# Altium footprint library Connector.PcbLib: 32 footprints (part 1 of 2)
Each footprint in its own frame and in the unit in brackets; x right, y up, seen from the top. Pads: shape width x height; smd on the part's side, far side on the other; paste and mask are expansions set on the pad; w line width, h text height; cw(c..) or ccw(c..) is an arc to the next point about the centre after c.
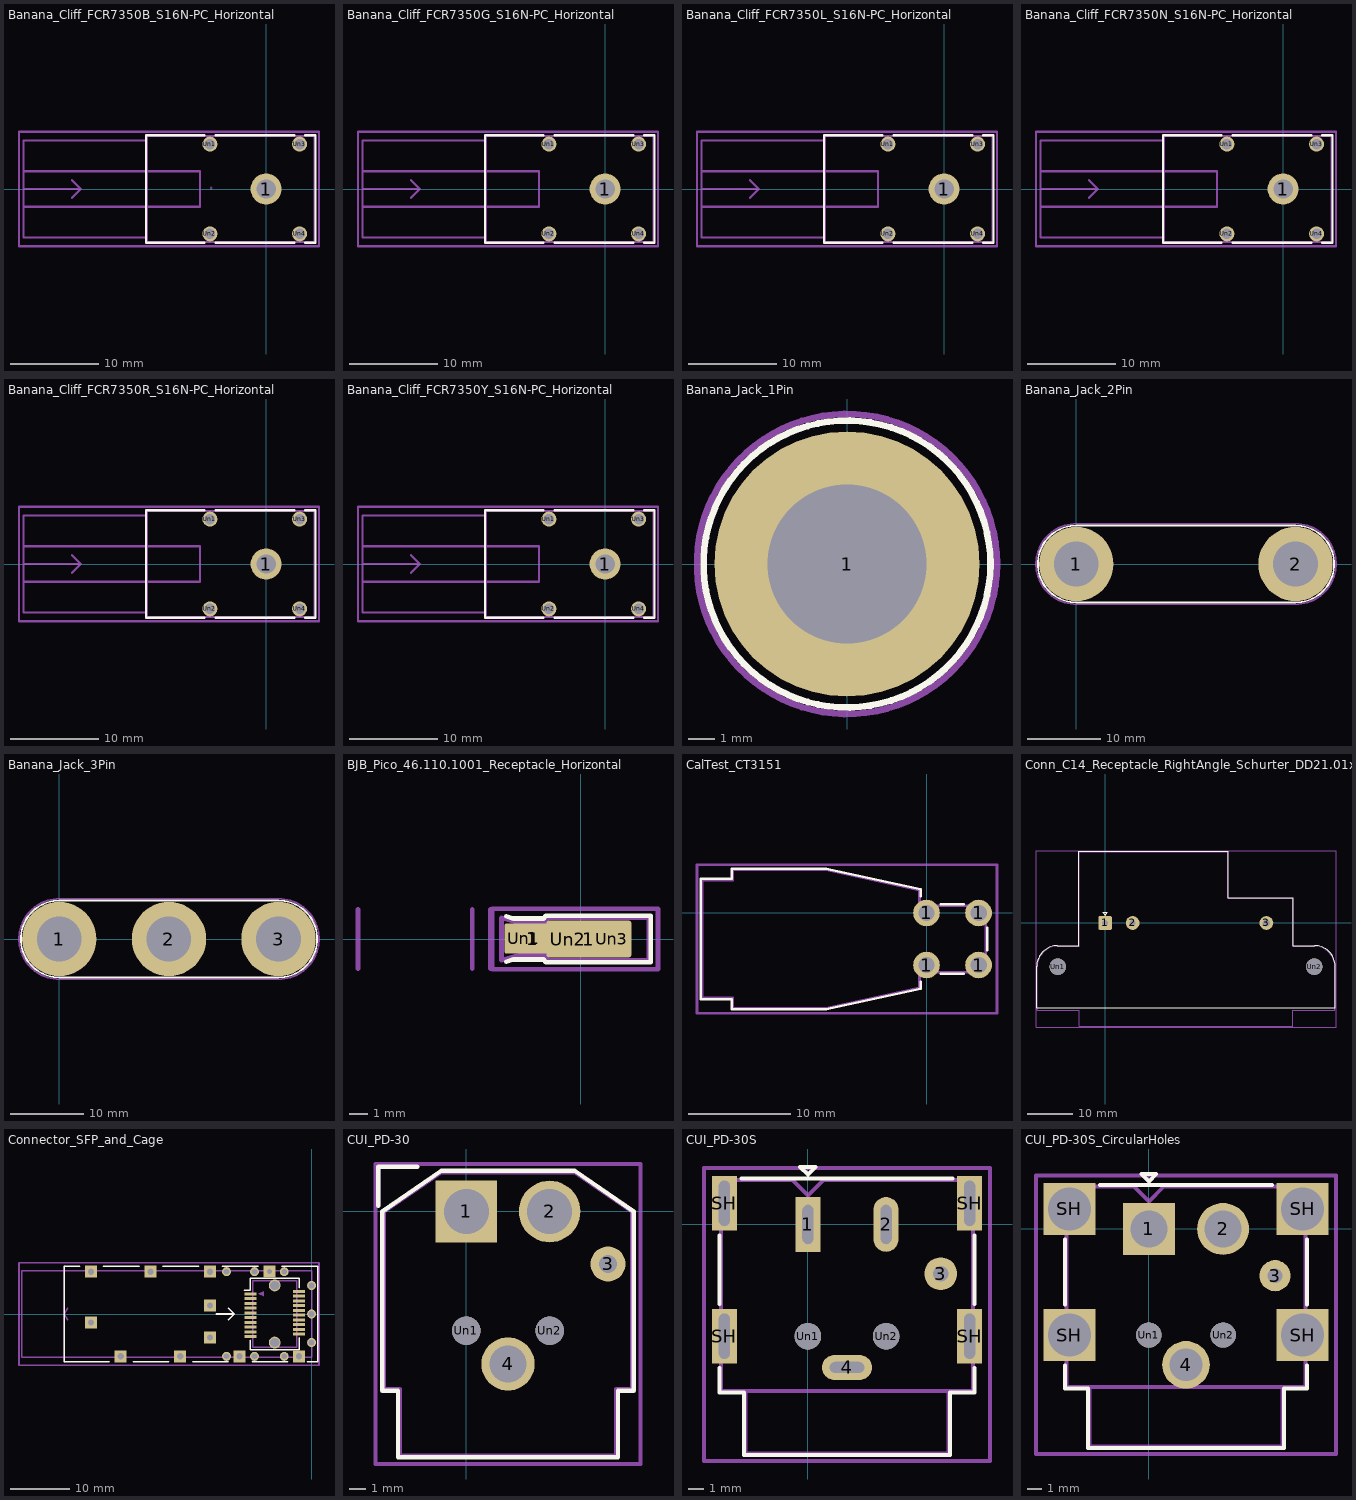
[diagram p0: the footprints below, top view; thin cyan lines are the x and y axes]

## Banana_Cliff_FCR7350B_S16N-PC_Horizontal [mm]
pads (5):
  round 3.5 hole 2.2: 1(0,0)
  round 1.7 hole 1.2: Un1(-6.36,5.08) Un2(-6.36,-5.08) Un3(3.8,5.08) Un4(3.8,-5.08)
F.SilkS:
  lines w0.254: -7,-6.1 -13.6,-6.1 -13.6,6.1 -7,6.1 ; -5.7,-6.1 3.2,-6.1 ; -5.7,6.1 3.2,6.1 ; 4.4,-6.1 5.6,-6.1 5.6,6.1 4.4,6.1
Top Component Center:
  lines w0.127: -6.35,0.127 -6.096,0.127 ; -6.223,0 -6.223,0.254
Top Assembly:
  lines w0.254: -27.5,0 -21,0 ; -22,-1 -21,0 ; -22,1 -21,0 ; -27.5,-5.5 -27.5,5.5 -13.5,5.5 -13.5,-5.5 -27.5,-5.5 ; -27.5,-2 -7.5,-2 -7.5,2 -27.5,2 -27.5,-2 ; -13.5,-6 5.5,-6 5.5,6 -13.5,6 -13.5,-6
  text "'.Designator'" at -4.047,-0.84 h1
Top Courtyard:
  lines w0.254: -28,-6.5 6,-6.5 6,6.5 -28,6.5 -28,-6.5
Top Designator:
  text ".Designator" at -18.618,-0.508 h1.52

## Banana_Cliff_FCR7350G_S16N-PC_Horizontal [mm]
pads (5):
  round 3.5 hole 2.2: 1(0,0)
  round 1.7 hole 1.2: Un1(-6.36,5.08) Un2(-6.36,-5.08) Un3(3.8,5.08) Un4(3.8,-5.08)
F.SilkS:
  lines w0.254: -7,-6.1 -13.6,-6.1 -13.6,6.1 -7,6.1 ; -5.7,-6.1 3.2,-6.1 ; -5.7,6.1 3.2,6.1 ; 4.4,-6.1 5.6,-6.1 5.6,6.1 4.4,6.1
Top Assembly:
  lines w0.254: -27.5,0 -21,0 ; -22,-1 -21,0 ; -22,1 -21,0 ; -27.5,-5.5 -27.5,5.5 -13.5,5.5 -13.5,-5.5 -27.5,-5.5 ; -27.5,-2 -7.5,-2 -7.5,2 -27.5,2 -27.5,-2 ; -13.5,-6 5.5,-6 5.5,6 -13.5,6 -13.5,-6
  text "'.Designator'" at -4.047,-0.84 h1
Top Courtyard:
  lines w0.254: -28,-6.5 6,-6.5 6,6.5 -28,6.5 -28,-6.5
Top Designator:
  text ".Designator" at -18.618,-0.508 h1.52

## Banana_Cliff_FCR7350L_S16N-PC_Horizontal [mm]
pads (5):
  round 3.5 hole 2.2: 1(0,0)
  round 1.7 hole 1.2: Un1(-6.36,5.08) Un2(-6.36,-5.08) Un3(3.8,5.08) Un4(3.8,-5.08)
F.SilkS:
  lines w0.254: -7,-6.1 -13.6,-6.1 -13.6,6.1 -7,6.1 ; -5.7,-6.1 3.2,-6.1 ; -5.7,6.1 3.2,6.1 ; 4.4,-6.1 5.6,-6.1 5.6,6.1 4.4,6.1
Top Assembly:
  lines w0.254: -27.5,0 -21,0 ; -22,-1 -21,0 ; -22,1 -21,0 ; -27.5,-5.5 -27.5,5.5 -13.5,5.5 -13.5,-5.5 -27.5,-5.5 ; -27.5,-2 -7.5,-2 -7.5,2 -27.5,2 -27.5,-2 ; -13.5,-6 5.5,-6 5.5,6 -13.5,6 -13.5,-6
  text "'.Designator'" at -4.047,-0.84 h1
Top Courtyard:
  lines w0.254: -28,-6.5 6,-6.5 6,6.5 -28,6.5 -28,-6.5
Top Designator:
  text ".Designator" at -18.618,-0.508 h1.52

## Banana_Cliff_FCR7350N_S16N-PC_Horizontal [mm]
pads (5):
  round 3.5 hole 2.2: 1(0,0)
  round 1.7 hole 1.2: Un1(-6.36,5.08) Un2(-6.36,-5.08) Un3(3.8,5.08) Un4(3.8,-5.08)
F.SilkS:
  lines w0.254: -7,-6.1 -13.6,-6.1 -13.6,6.1 -7,6.1 ; -5.7,-6.1 3.2,-6.1 ; -5.7,6.1 3.2,6.1 ; 4.4,-6.1 5.6,-6.1 5.6,6.1 4.4,6.1
Top Assembly:
  lines w0.254: -27.5,0 -21,0 ; -22,-1 -21,0 ; -22,1 -21,0 ; -27.5,-5.5 -27.5,5.5 -13.5,5.5 -13.5,-5.5 -27.5,-5.5 ; -27.5,-2 -7.5,-2 -7.5,2 -27.5,2 -27.5,-2 ; -13.5,-6 5.5,-6 5.5,6 -13.5,6 -13.5,-6
  text "'.Designator'" at -4.047,-0.84 h1
Top Courtyard:
  lines w0.254: -28,-6.5 6,-6.5 6,6.5 -28,6.5 -28,-6.5
Top Designator:
  text ".Designator" at -18.618,-0.508 h1.52

## Banana_Cliff_FCR7350R_S16N-PC_Horizontal [mm]
pads (5):
  round 3.5 hole 2.2: 1(0,0)
  round 1.7 hole 1.2: Un1(-6.36,5.08) Un2(-6.36,-5.08) Un3(3.8,5.08) Un4(3.8,-5.08)
F.SilkS:
  lines w0.254: -7,-6.1 -13.6,-6.1 -13.6,6.1 -7,6.1 ; -5.7,-6.1 3.2,-6.1 ; -5.7,6.1 3.2,6.1 ; 4.4,-6.1 5.6,-6.1 5.6,6.1 4.4,6.1
Top Assembly:
  lines w0.254: -27.5,0 -21,0 ; -22,-1 -21,0 ; -22,1 -21,0 ; -27.5,-5.5 -27.5,5.5 -13.5,5.5 -13.5,-5.5 -27.5,-5.5 ; -27.5,-2 -7.5,-2 -7.5,2 -27.5,2 -27.5,-2 ; -13.5,-6 5.5,-6 5.5,6 -13.5,6 -13.5,-6
  text "'.Designator'" at -4.047,-0.84 h1
Top Courtyard:
  lines w0.254: -28,-6.5 6,-6.5 6,6.5 -28,6.5 -28,-6.5
Top Designator:
  text ".Designator" at -18.618,-0.508 h1.52

## Banana_Cliff_FCR7350Y_S16N-PC_Horizontal [mm]
pads (5):
  round 3.5 hole 2.2: 1(0,0)
  round 1.7 hole 1.2: Un1(-6.36,5.08) Un2(-6.36,-5.08) Un3(3.8,5.08) Un4(3.8,-5.08)
F.SilkS:
  lines w0.254: -7,-6.1 -13.6,-6.1 -13.6,6.1 -7,6.1 ; -5.7,-6.1 3.2,-6.1 ; -5.7,6.1 3.2,6.1 ; 4.4,-6.1 5.6,-6.1 5.6,6.1 4.4,6.1
Top Assembly:
  lines w0.254: -27.5,0 -21,0 ; -22,-1 -21,0 ; -22,1 -21,0 ; -27.5,-5.5 -27.5,5.5 -13.5,5.5 -13.5,-5.5 -27.5,-5.5 ; -27.5,-2 -7.5,-2 -7.5,2 -27.5,2 -27.5,-2 ; -13.5,-6 5.5,-6 5.5,6 -13.5,6 -13.5,-6
  text "'.Designator'" at -4.047,-0.84 h1
Top Courtyard:
  lines w0.254: -28,-6.5 6,-6.5 6,6.5 -28,6.5 -28,-6.5
Top Designator:
  text ".Designator" at -18.618,-0.508 h1.52

## Banana_Jack_1Pin [mm]
pads (1):
  round 10.16 hole 6.1: 1(0,0)
F.SilkS:
  circle w0.254: c0,0 r5.5
Top Assembly:
  circle w0.254: c0,0 r4.85
  circle w0.254: c0,0 r2
  text "'.Designator'" at -3.237,-0.672 h0.8
Top Courtyard:
  circle w0.254: c0,0 r5.75
Top Designator:
  text ".Designator" at -7.618,-0.508 h1.52

## Banana_Jack_2Pin [mm]
pads (2):
  round 10.16 hole 6.1: 1(0,0) 2(29.97,0)
F.SilkS:
  lines w0.254: 0,-5.25 cw(c0,0) 0,5.25 30,5.25 cw(c30,0) 30,-5.25 0,-5.25
Top Assembly:
  circle w0.254: c30,0 r4.75
  circle w0.254: c30,0 r2
  circle w0.254: c0,0 r4.75
  circle w0.254: c0,0 r2
  text "'.Designator'" at 10.938,-0.84 h1
Top Courtyard:
  lines w0.254: 0,-5.5 cw(c0,0) 0,5.5 30,5.5 cw(c30,0) 30,-5.5 0,-5.5
Top Designator:
  text ".Designator" at 7.382,-0.508 h1.52

## Banana_Jack_3Pin [mm]
pads (3):
  round 10.16 hole 6.1: 1(0,0) 2(14.99,0) 3(29.97,0)
F.SilkS:
  lines w0.254: 0,-5.25 cw(c0,0) 0,5.25 30,5.25 cw(c30,0) 30,-5.25 0,-5.25
Top Assembly:
  circle w0.254: c30,0 r2
  circle w0.254: c30,0 r4.75
  circle w0.254: c15,0 r4.75
  circle w0.254: c15,0 r2
  circle w0.254: c0,0 r4.75
  circle w0.254: c0,0 r2
  text "'.Designator'" at 11.753,-0.672 h0.8
Top Courtyard:
  lines w0.254: 0,-5.5 cw(c0,0) 0,5.5 30,5.5 cw(c30,0) 30,-5.5 0,-5.5
Top Designator:
  text ".Designator" at 7.382,-0.508 h1.52

## BJB_Pico_46.110.1001_Receptacle_Horizontal [mm]
pads (5):
  rrect15% 3.1x1.65 smd: 1(-2.6,0.025)
  rrect12% 4.6x2 smd: 1(0.45,0)
  rrect15% 2.1x1.65 on Top Paste: Un1(-3.1,0.025)
  rrect12% 2.3x2 on Top Paste: Un2(-0.7,0)
  rrect12% 2.1x2 on Top Paste: Un3(1.7,0)
F.SilkS:
  lines w0.254: -4.05,-1.24 -3.65,-1.11 -2,-1.11 -1.9,-1.26 3.81,-1.26 3.81,1.26 -1.9,1.26 -2,1.11 -3.65,1.11 -4.05,1.24
Top Assembly:
  lines w0.254: -4.3,-1.15 -3.3,-0.85 -1.95,-0.85 -1.8,-1.15 3.7,-1.15 3.7,1.15 -1.8,1.15 -1.95,0.85 -3.3,0.85 -4.3,1.15 -4.3,-1.15
  text "'.Designator'" at -4.047,-0.84 h1
Top Courtyard:
  lines w0.254: -4.8,-1.65 4.2,-1.65 4.2,1.65 -4.8,1.65 -4.8,-1.65
Top Designator:
  text ".Designator" at -11.821,-0.508 h1.52
Dwgs.User:
  lines w0.254: -12.1,-1.6 -12.1,1.6 ; -5.9,-1.6 -5.9,1.6 ; -4.9,-1.6 -4.9,1.6
  text "PCB Edges" at -5.073,-1.526 h0.4
  text "17.6mm conn" at -6.105,-1.428 h0.3
  text "15.6mm conn" at -4.305,-1.428 h0.3
  text "MiniFlex 30" at -11.431,-1.534 h0.4
  text "PCB Edge" at -12.273,-1.379 h0.4

## CalTest_CT3151 [mm]
pads (4):
  round 2.6 hole 1.6: 1(0,-5.08) 1(0,0) 1(5.08,-5.08) 1(5.08,0)
F.SilkS:
  lines w0.254: -0.561,-6.703 -0.561,-7.41 -9.79,-9.41 -19.02,-9.41 -19.02,-8.41 -22.02,-8.41 -22.02,3.33 -19.02,3.33 -19.02,4.33 -9.79,4.33 -0.561,2.33 -0.561,1.623 ; 1.417,-5.92 3.653,-5.92 ; 1.417,0.84 3.652,0.84 ; 5.92,-3.656 5.92,-1.425
Top Assembly:
  lines w0.254: -21.9,-8.29 -18.9,-8.29 -18.9,-9.29 -9.79,-9.29 -0.68,-7.29 -0.68,-5.8 5.8,-5.8 5.8,0.72 -0.68,0.72 -0.68,2.21 -9.79,4.21 -18.9,4.21 -18.9,3.21 -21.9,3.21 -21.9,-8.29
  text "'.Designator'" at -1.507,-3.38 h1
Top Courtyard:
  lines w0.254: -22.4,-9.79 6.88,-9.79 6.88,4.71 -22.4,4.71 -22.4,-9.79
Top Designator:
  text ".Designator" at -15.378,-3.048 h1.52

## Conn_C14_Receptacle_RightAngle_Schurter_DD21.01xx [mm]
pads (5):
  rrect22% 3x3 hole 1.3: 1(0,0)
  round 3 hole 1.3: 2(6,0)
  round 3 hole 1.6: 3(35.2,0)
  round 3.6 hole 3.6: Un1(-10.35,-9.55) Un2(45.65,-9.55)
F.SilkS:
  lines w0.254: -5.54,15.66 -5.76,15.66 ; 26.86,15.44 26.86,15.66 ; 41.06,5.24 41.06,5.46 ; -5.76,15.66 26.86,15.66 ; -5.76,15.66 -5.76,-4.94 -10.46,-4.94 ccw(c-10.35,-9.55) -14.96,-9.44 -14.96,-18.55 50.26,-18.55 50.26,-9.66 ccw(c45.65,-9.55) 45.76,-4.94 41.06,-4.94 41.06,5.46 ; 26.86,15.66 26.86,5.46 41.06,5.46 ; -0.492,2.321 0,1.641 0.479,2.321 -0.492,2.321
Top Assembly:
  lines w0.254: -14.85,-19.05 -5.65,-19.05 -5.65,-22.55 40.95,-22.55 40.95,-19.05 50.15,-19.05 50.15,-9.55 ccw(c45.65,-9.55) 45.65,-5.05 40.95,-5.05 40.95,5.35 26.75,5.35 26.75,15.55 -5.65,15.55 -5.65,-5.05 -10.35,-5.05 ccw(c-10.35,-9.55) -14.85,-9.55 -14.85,-19.05
  text "'.Designator'" at 13.603,-10.28 h1
Top Courtyard:
  lines w0.254: -15.1,-22.8 50.4,-22.8 50.4,15.8 -15.1,15.8 -15.1,-22.8
Top Designator:
  text ".Designator" at 10.032,-4.008 h1.52

## Connector_SFP_and_Cage [mm]
pads (42):
  rect 2x0.5 smd: 1(-10.3,3.4) 2(-10.3,2.6) 3(-10.3,1.8) 4(-10.3,1) 5(-10.3,0.2) 6(-10.3,-0.6) 7(-10.3,-1.4) 8(-10.3,-2.2) 9(-10.3,-3) 10(-10.3,-3.8) 11(-2.1,-3.4) 12(-2.1,-2.6) 13(-2.1,-1.8) 14(-2.1,-1) 15(-2.1,-0.2) 16(-2.1,0.6) 17(-2.1,1.4) 18(-2.1,2.2) 19(-2.1,3) 20(-2.1,3.8)
  rect 2x2 hole 1.05: CAGE(-37.1,-1.45) CAGE(-37.1,7.125) CAGE(-32.1,-7.125) CAGE(-27.1,7.125) CAGE(-22.1,-7.125) CAGE(-17.1,-3.95) CAGE(-17.1,1.45) CAGE(-17.1,7.125) CAGE(-12.1,-7.125) CAGE(-2.1,-7.125)
  round 1.5 hole 0.95: CAGE(-14.3,-7.125) CAGE(-14.3,7.125) CAGE(-9.6,-7.125) CAGE(-9.6,7.125) CAGE(-4.6,-7.125) CAGE(-4.6,7.125) CAGE(0,-4.8) CAGE(0,0) CAGE(0,4.8)
  rect 2x2 hole 0.85: CAGE(-7.1,7.125)
  round 2 hole 1.55: Un1(-6.2,4.8) Un2(-6.2,-4.8)
F.SilkS:
  lines w0.254: -39,8 -41.6,8 -41.6,-8 -34,-8 ; -35,8 -29,8 ; -30,-8 -24,-8 ; -25,8 -19,8 ; -20,-8 -14,-8 ; -16,0 -13,0 ; -15,8 -9,8 ; -14,-1 -13,0 ; -14,1 -13,0 ; -11.3,4 -10.3,4 -10.3,6 -2.1,6 -2.1,4.4 ; -10.3,-4.4 -10.3,-6 -2.1,-6 -2.1,-4 ; -10,-8 -4,-8 ; -5,8 1,8 1,-8 -0.7,-8
Top Assembly:
  region: -8,3 -9,3.4 -8,3.8
  lines w0.254: -48.7,-7.25 0,-7.25 0,7.25 -48.7,7.25 -48.7,-7.25 ; -9.9,-5.6 -2.5,-5.6 -2.5,5.6 -9.9,5.6 -9.9,-5.6
  text "'.Designator'" at -10.247,-0.84 h1
Top Courtyard:
  lines w0.254: -49.2,-8.63 1.25,-8.63 1.25,8.63 -49.2,8.63 -49.2,-8.63
Top Designator:
  text ".Designator" at -31.593,-0.508 h1.52
Dwgs.User:
  lines w0.254: -41.6,-8.125 -41.6,8.125 ; -41,-1 -41.6,0 -41,1
Cmts.User:
  text "(except chassis ground)" at -36.329,2.088 h1
  text "Component and trace keepout" at -38.631,3.883 h1
  text "PCB edge" at -42.183,-3.447 h1

## CUI_PD-30 [mm]
pads (6):
  rect 3.7x3.7 hole 2.7: 1(0,0)
  round 3.7 hole 2.7: 2(5,0)
  round 2.1 hole 1.1: 3(8.5,-3.15)
  round 3.2 hole 2.2: 4(2.5,-9.15)
  round 1.7 hole 1.7: Un1(0,-7.15) Un2(5,-7.15)
F.SilkS:
  lines w0.254: -5.29,0.35 -5.29,2.69 -2.95,2.69 ; -5.05,-10.75 -4.1,-10.75 -4.1,-14.75 9.1,-14.75 9.1,-10.75 10.05,-10.75 10.05,0 6.5,2.45 -1.5,2.45 -5.05,0 -5.05,-10.75
Top Assembly:
  lines w0.254: -5.29,0.35 -5.29,2.69 -2.95,2.69 ; -4.95,-10.65 -4,-10.65 -4,-14.65 9,-14.65 9,-10.65 9.95,-10.65 9.95,0 6.5,2.35 -1.5,2.35 -4.95,0 -4.95,-10.65
  text "'.Designator'" at -1.547,-6.99 h1
Top Courtyard:
  lines w0.254: -5.45,-15.15 10.45,-15.15 10.45,2.85 -5.45,2.85 -5.45,-15.15
Top Designator:
  text ".Designator" at -5.118,-6.658 h1.52

## CUI_PD-30S [mm]
pads (10):
  rect 1.6x3.5 hole 2.5 slot 0.7 at 0 deg: 1(0,0)
  rrect100% 1.6x3.5 hole 2.5 slot 0.7 at 0 deg: 2(5,0)
  round 2.1 hole 1: 3(8.5,-3.15)
  rrect100% 3.2x1.6 hole 0.7 slot 2.2 at 0 deg: 4(2.5,-9.15)
  rect 1.6x3.5 hole 2.9 slot 0.7 at 0 deg: SH(-5.35,-7.15) SH(-5.35,1.35) SH(10.35,-7.15) SH(10.35,1.35)
  round 1.7 hole 1.7: Un1(0,-7.15) Un2(5,-7.15)
F.SilkS:
  lines w0.254: -5.65,-9.2 -5.65,-10.75 -4.1,-10.75 -4.1,-14.75 9.1,-14.75 9.1,-10.75 10.65,-10.75 10.65,-9.2 ; -5.65,-5.1 -5.65,-0.7 ; -4.25,2.95 9.25,2.95 ; 10.65,-5.1 10.65,-0.7 ; -0.5,3.69 0,3.19 0.5,3.69 -0.5,3.69
Top Assembly:
  lines w0.254: -4,-10.65 -4,-14.65 9,-14.65 9,-10.65 ; -4,-10.65 9,-10.65 ; -4,-10.65 -5.55,-10.65 -5.55,2.85 -1,2.85 0,1.85 1,2.85 10.55,2.85 10.55,-10.65 9,-10.65
  text "'.Designator'" at -1.547,-6.74 h1
Top Courtyard:
  lines w0.254: -6.65,-15.15 11.65,-15.15 11.65,3.6 -6.65,3.6 -6.65,-15.15
Top Designator:
  text ".Designator" at -5.118,-6.238 h1.52

## CUI_PD-30S_CircularHoles [mm]
pads (10):
  rect 3.5x3.5 hole 2.5: 1(0,0)
  round 3.5 hole 2.5: 2(5,0)
  round 2.1 hole 1: 3(8.5,-3.15)
  round 3.2 hole 2.2: 4(2.5,-9.15)
  rect 3.5x3.5 hole 2.9: SH(-5.35,-7.15) SH(-5.35,1.35) SH(10.35,-7.15) SH(10.35,1.35)
  round 1.7 hole 1.7: Un1(0,-7.15) Un2(5,-7.15)
F.SilkS:
  lines w0.254: -5.65,-9.2 -5.65,-10.75 -4.1,-10.75 -4.1,-14.75 9.1,-14.75 9.1,-10.75 10.65,-10.75 10.65,-9.2 ; -5.65,-5.1 -5.65,-0.7 ; -3.3,2.95 8.3,2.95 ; 10.65,-5.1 10.65,-0.7 ; -0.5,3.69 0,3.19 0.5,3.69 -0.5,3.69
Top Assembly:
  lines w0.254: -4,-10.65 -4,-14.65 9,-14.65 9,-10.65 ; -4,-10.65 9,-10.65 ; -4,-10.65 -5.55,-10.65 -5.55,2.85 -1,2.85 0,1.85 1,2.85 10.55,2.85 10.55,-10.65 9,-10.65
  text "'.Designator'" at -1.547,-6.74 h1
Top Courtyard:
  lines w0.254: -7.6,-15.15 12.6,-15.15 12.6,3.6 -7.6,3.6 -7.6,-15.15
Top Designator:
  text ".Designator" at -5.118,-6.238 h1.52